# Altium footprint library ce156.PcbLib: 2 footprints
Each footprint in its own frame and in the unit in brackets; x right, y up, seen from the top. Pads: shape width x height; smd on the part's side, far side on the other; paste and mask are expansions set on the pad; w line width, h text height; cw(c..) or ccw(c..) is an arc to the next point about the centre after c.
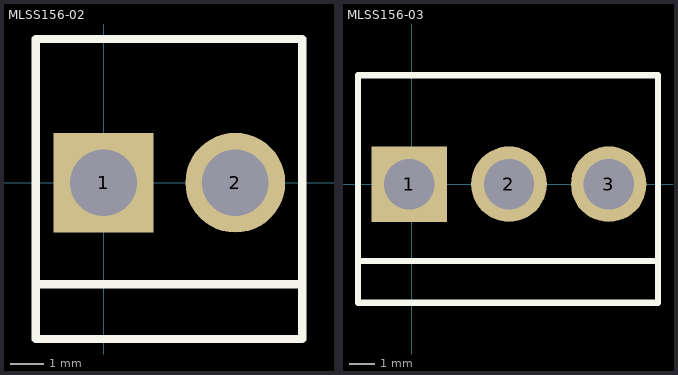
[diagram p0: the footprints below, top view; thin cyan lines are the x and y axes]

## MLSS156-02 [mm]
pads (2):
  rect 3x3 hole 2: 1(0,0)
  round 3 hole 2: 2(3.962,0)
Top Overlay:
  lines w0.254: -2.032,-3.048 5.969,-3.048 ; -2.032,-4.699 -2.032,4.318 5.969,4.318 5.969,-4.699 -2.032,-4.699

## MLSS156-03 [mm]
pads (3):
  rect 3x3 hole 2: 1(-0.1,0)
  round 3 hole 2: 2(3.862,0) 3(7.823,0)
Top Overlay:
  lines w0.254: -2.132,-3.048 9.779,-3.048 ; -2.132,-4.699 -2.132,4.318 9.779,4.318 9.779,-4.699 -2.132,-4.699